# Altium schematic symbol library SN74LV4051ADR.SchLib: 1 symbol
Pins are listed as number, name and electrical type; pins without a type are passive.

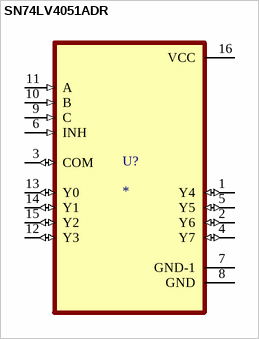
[diagram p0: symbol SN74LV4051ADR]

## SN74LV4051ADR
designator U?
MP: SN74LV4051ADR; MF: {'manufacturer': u'Texas Instruments'}; Package: None; Availability: Unavailable; Value: *; Price: None
footprint SOIC127P600X175-16N
pins: 1 Y4 (io), 2 Y6 (io), 3 COM (io), 4 Y7 (io), 5 Y5 (io), 6 INH (in), 7 GND-1 (power), 8 GND (power), 9 C (in), 10 B (in), 11 A (in), 12 Y3 (io), 13 Y0 (io), 14 Y1 (io), 15 Y2 (io), 16 VCC (power)